# EAGLE library part DRIVER_BD62130AEFJ (library kxnStandard_IC_Function)
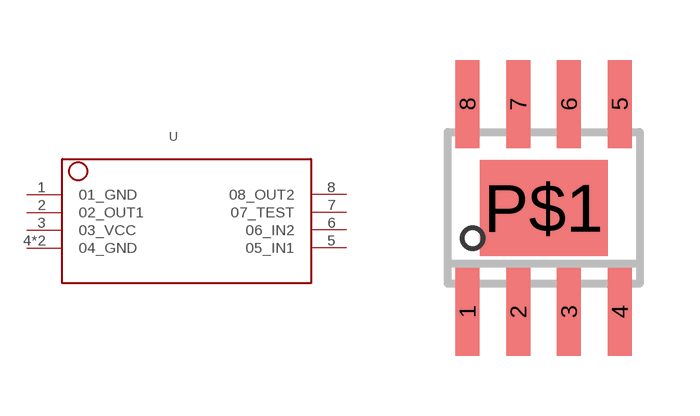
[diagram p10: symbol with the pads of SOP8_HTSOP-J8; footprint SOP8_HTSOP-J8]

Designator prefix -

## DRIVER_BD62130AEFJ_FULL (CC_SHOP: CongCo)  [SOP8_HTSOP-J8]
1  01_GND
2  02_OUT1
3  03_VCC
4  04_GND
5  05_IN1
6  06_IN2
7  07_TEST
8  08_OUT2
P$1  04_GND

## Footprint SOP8_HTSOP-J8 (pad centres in mm)
smd 0.6 x 2.2: 1 -1.905,-2.6; 2 -0.635,-2.6; 3 0.635,-2.6; 4 1.905,-2.6; 5 1.905,2.6; 6 0.635,2.6; 7 -0.635,2.6; 8 -1.905,2.6
smd 3.2 x 2.4: P$1 0,0